# Altium integrated library SO-14.IntLib: 1 symbol
Pins are listed as number, name and electrical type; pins without a type are passive.

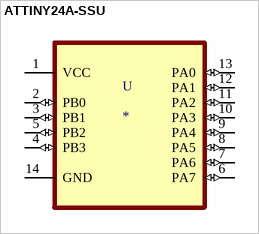
[diagram p0: symbol ATTINY24A-SSU]

## ATTINY24A-SSU
designator U
AVR AVRÂ® ATtiny Microcontroller IC 8-Bit 20MHz 2KB _1K x 16_ FLASH 14-SOIC; MF: Microchip; MP: ATTINY24A-SSU; SnapEDA_Link: https://www.snapeda.com/parts/ATTINY24A-SSU/Microchip/view-part/666495/?ref=snap; Availability: Unavailable; Price: None; Package: SOIC-14 Microchip; Value: *
footprint SOIC127P600X175-14N
pins: 1 VCC (power), 2 PB0 (io), 3 PB1 (io), 4 PB3 (io), 5 PB2 (io), 6 PA7 (io), 7 PA6 (io), 8 PA5 (io), 9 PA4 (io), 10 PA3 (io), 11 PA2 (io), 12 PA1 (io), 13 PA0 (io), 14 GND (power)